# EAGLE library part TPS22810 (library FaBo-LoadSwitch)
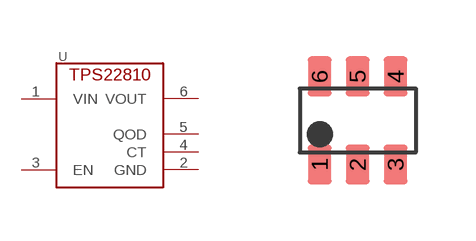
[diagram p0: symbol with the pads of TPS22810; footprint TPS22810]

Designator prefix U

## TPS22810DBV  [TPS22810]
1  VIN
2  GND
3  EN
4  CT
5  QOD
6  VOUT

## Footprint TPS22810 (pad centres in mm)
smd 0.6 x 1: 1 -0.95,-1.1; 2 0,-1.1; 3 0.95,-1.1; 4 0.95,1.1; 5 0,1.1; 6 -0.95,1.1